# EAGLE library part OLED_XYDZ_13 (library blinkinlabs)
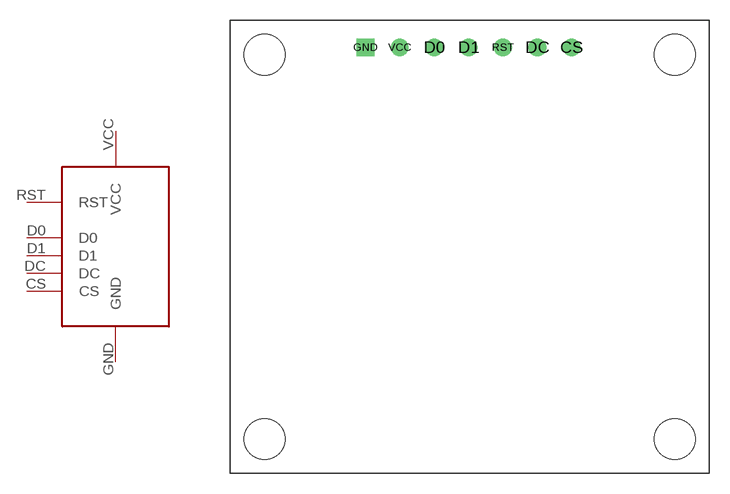
[diagram p2: symbol with the pads of OLED_XYDZ_13; footprint OLED_XYDZ_13]

Designator prefix -

## OLED_XYDZ_13  [OLED_XYDZ_13]
CS  CS
D0  D0
D1  D1
DC  DC
GND  GND
RST  RST
VCC  VCC

## Footprint OLED_XYDZ_13 (pad centres in mm)
drill 0.8: CS 25.24,31.5; D0 15.08,31.5; D1 17.62,31.5; DC 22.7,31.5; RST 20.16,31.5; VCC 12.54,31.5
drill 0.8 square: GND 10,31.5
hole 3 at 2.54,30.96
hole 3 at 32.86,30.96
hole 3 at 32.86,2.54
hole 3 at 2.54,2.54